# Altium integrated library RSX_Resistors.IntLib: 12 symbols
Pins are listed as number, name and electrical type; pins without a type are passive.

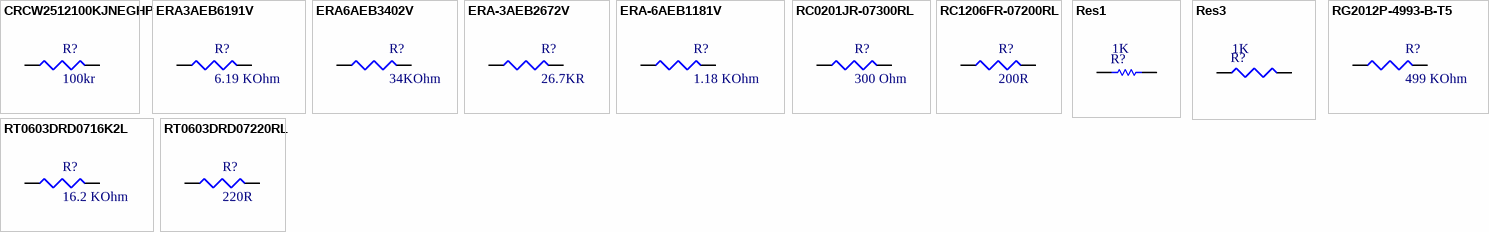
[diagram p0: symbols CRCW2512100KJNEGHP to RT0603DRD07220RL]

## CRCW2512100KJNEGHP
designator R?, comment 100kr
RES SMD 100K OHM 5% 1.5W 2512; Manufacturer 1: Vishay Dale; Manufacturer Part Number 1: CRCW2512100KJNEGHP; Voltage Rating: 500V; Temperature Coefficient: 200ppm/°C; Supplier 1: Digi-Key; Supplier Part Number 1: 541-100KRACT-ND; Stock 1: 229705; Pricing 1: 1=0,75000, 10=0,55200, 100=0,32130, 1000=0,18016 (USD); RoHS: Yes; Case/Package: 2512; Weight: 0.001482oz; Case Code (Metric): 6432; Case Code (Imperial): 2512; Contact Plating: Tin; Min Operating Temperature: -55°C; Max Operating Temperature: 155°C; Power Rating: 1.5W; Tolerance: 5%; Resistance: 100kR; Packaging: Tape and Reel; Package Quantity: 1; Composition: Thick Film; Number of Terminations: 2; Termination: SMD/SMT; Max Power Dissipation: 1.5W; Features: Automotive AEC-Q200; Length: 0.248inch; Height: 0.028inch; Width: 0.124inch; Radiation Hardening: No; Lead Free: Lead Free; ComponentLink1URL: https://datasheet.ciiva.com/2483/crcwhpe3-2483163.pdf?src-supplier=Digi-Key; ComponentLink1Description: https://datasheet.ciiva.com/2483/crcwhpe3-2483163.pdf?src-supplier=Digi-Key; ComponentLink2URL: https://datasheet.ciiva.com/2483/crcwhpe3-2483164.pdf?src-supplier=Digi-Key; ComponentLink2Description: https://datasheet.ciiva.com/2483/crcwhpe3-2483164.pdf?src-supplier=Digi-Key; ComponentLink3URL: https://datasheet.ciiva.com/5545/crcwhpe3-46056-5545996.pdf?src-supplier=Mouser; ComponentLink3Description: https://datasheet.ciiva.com/5545/crcwhpe3-46056-5545996.pdf?src-supplier=Mouser; ComponentLink4URL: https://datasheet.ciiva.com/8982/crcwhpe3-8982492.pdf?src-supplier=Avnet; ComponentLink4Description: https://datasheet.ciiva.com/8982/crcwhpe3-8982492.pdf?src-supplier=Avnet; ComponentLink5URL: https://datasheet.ciiva.com/2483/crcwhpe3-2483165.pdf?src-supplier=Digi-Key; ComponentLink5Description: https://datasheet.ciiva.com/2483/crcwhpe3-2483165.pdf?src-supplier=Digi-Key; Category: Resistor
pins: 11, 12

## ERA3AEB6191V
designator R?, comment 6.19 KOhm
RES SMD 6.19KOHM 0.1% 1/10W 0603; Manufacturer 1: Panasonic; Manufacturer Part Number 1: ERA3AEB6191V; Resistance: 6.19kR; Power Rating: 100mW; Voltage Rating: 75V; Temperature Coefficient: 25ppm/°C; Supplier 1: Digi-Key; Supplier Part Number 1: P6.19KDBCT-ND; Stock 1: 26110; Pricing 1: 1=0,35000, 10=0,30000, 100=0,11720, 1000=0,04906, 2500=0,04498 (USD); RoHS: Yes; Mount: Surface Mount; Case/Package: 0603; Number of Pins: 2; Case Code (Imperial): 0603; Case Code (Metric): 1608; Contact Plating: Tin; Min Operating Temperature: -55°C; Max Operating Temperature: 155°C; Tolerance: 0.1%; Packaging: Tape and Reel; Package Quantity: 1; Composition: Metal Film,Thin Film; Number of Terminations: 2; Military Standard: Not; Max Power Dissipation: 100mW; Voltage Rating (DC): 75V; Features: Automotive AEC-Q200; Length: 1.6mm; Height: 0.45mm; Width: 0.8mm; Depth: 0.8mm; Radiation Hardening: No; REACH SVHC: No SVHC; Lead Free: Lead Free; ComponentLink1URL: https://datasheet.ciiva.com/11809/0900766b80eb1d8c-11809038.pdf?src-supplier=RSComponents; ComponentLink1Description: https://datasheet.ciiva.com/11809/0900766b80eb1d8c-11809038.pdf?src-supplier=RSComponents; ComponentLink2URL: https://datasheet.ciiva.com/5971/485442-5971798.pdf?src-supplier=Farnell; ComponentLink2Description: https://datasheet.ciiva.com/5971/485442-5971798.pdf?src-supplier=Farnell; ComponentLink3URL: https://datasheet.ciiva.com/24026/aoa0000ce26-32660-24026983.pdf?src-supplier=Mouser; ComponentLink3Description: https://datasheet.ciiva.com/24026/aoa0000ce26-32660-24026983.pdf?src-supplier=Mouser; ComponentLink4URL: https://datasheet.ciiva.com/46447/485442-46447114.pdf?src-supplier=Element14; ComponentLink4Description: https://datasheet.ciiva.com/46447/485442-46447114.pdf?src-supplier=Element14; ComponentLink5URL: https://datasheet.ciiva.com/43457/485442-43457243.pdf?src-supplier=Farnell; ComponentLink5Description: https://datasheet.ciiva.com/43457/485442-43457243.pdf?src-supplier=Farnell; ComponentLink6URL: https://datasheet.ciiva.com/46447/485442-46447115.pdf?src-supplier=Element14; ComponentLink6Description: https://datasheet.ciiva.com/46447/485442-46447115.pdf?src-supplier=Element14; ComponentLink7URL: https://datasheet.ciiva.com/41450/001180853-da-01-en-widerstand-era-0603-6k19-0-1-5000st-41450170.pdf?src-supplier=Conrad; ComponentLink7Description: https://datasheet.ciiva.com/41450/001180853-da-01-en-widerstand-era-0603-6k19-0-1-5000st-41450170.pdf?src-supplier=Conrad
footprint 6.19KOhm Resistor (Chip Resistor, 2-Leads, Body 1,60x0,80mm, IPC Medium Density)
pins: 1 11, 2 12

## ERA6AEB3402V
designator R?, comment 34KOhm
RES SMD 34K OHM 0.1% 1/8W 0805; Manufacturer 1: Panasonic; Manufacturer Part Number 1: ERA6AEB3402V; Resistance: 34kR; Temperature Coefficient: 25ppm/°C; Max Power Dissipation: 125mW; Voltage Rating: 200V; Voltage Rating (DC): 100V; Supplier 1: Digi-Key; Supplier Part Number 1: P34KDACT-ND; Stock 1: 7057; Pricing 1: 1=0,36000, 10=0,30200, 100=0,11820, 1000=0,04948, 2500=0,04536 (USD); RoHS: Yes; Mount: Surface Mount; Case/Package: 0805; Number of Pins: 2; Case Code (Imperial): 0805; Case Code (Metric): 2012; Contact Plating: Tin; Min Operating Temperature: -55°C; Max Operating Temperature: 155°C; Tolerance: 0.1%; Packaging: Tape and Reel; Composition: Metal Film,Thin Film; Number of Terminations: 2; Features: Automotive AEC-Q200; Power Rating: 125mW; Package Quantity: 5000; Termination: SMD/SMT; Military Standard: Not; Length: 2mm; Height: 0.5mm; Width: 1.25mm; Depth: 1.25mm; Radiation Hardening: No; Lead Free: Lead Free; REACH SVHC: No SVHC; ComponentLink1URL: https://datasheet.ciiva.com/11815/0900766b80eb1d8c-11815791.pdf?src-supplier=RSComponents; ComponentLink1Description: https://datasheet.ciiva.com/11815/0900766b80eb1d8c-11815791.pdf?src-supplier=RSComponents; ComponentLink2URL: https://datasheet.ciiva.com/41450/001181326-da-01-en-widerstand-era-0805-34k0-0-1-5000st-41450489.pdf?src-supplier=Conrad; ComponentLink2Description: https://datasheet.ciiva.com/41450/001181326-da-01-en-widerstand-era-0805-34k0-0-1-5000st-41450489.pdf?src-supplier=Conrad; ComponentLink3URL: https://datasheet.ciiva.com/9190/aoa0000ce26-9190487.pdf?src-supplier=Avnet; ComponentLink3Description: https://datasheet.ciiva.com/9190/aoa0000ce26-9190487.pdf?src-supplier=Avnet; ComponentLink4URL: https://datasheet.ciiva.com/17210/aoa0000ce26-17210191.pdf?src-supplier=Avnet+Europe; ComponentLink4Description: https://datasheet.ciiva.com/17210/aoa0000ce26-17210191.pdf?src-supplier=Avnet+Europe; ComponentLink5URL: https://datasheet.ciiva.com/22705/485442-22705221.pdf?src-supplier=Element14; ComponentLink5Description: https://datasheet.ciiva.com/22705/485442-22705221.pdf?src-supplier=Element14; ComponentLink6URL: https://datasheet.ciiva.com/6052/485442-6052790.pdf?src-supplier=Farnell; ComponentLink6Description: https://datasheet.ciiva.com/6052/485442-6052790.pdf?src-supplier=Farnell; ComponentLink7URL: https://datasheet.ciiva.com/7870/485442-7870667.pdf?src-supplier=Element14; ComponentLink7Description: https://datasheet.ciiva.com/7870/485442-7870667.pdf?src-supplier=Element14; ComponentLink8URL: https://datasheet.ciiva.com/7870/485442-7870668.pdf?src-supplier=Element14; ComponentLink8Description: https://datasheet.ciiva.com/7870/485442-7870668.pdf?src-supplier=Element14
footprint 34 KOhm Resistor ERA-6A (Chip Resistor, 2-Leads, Body 2,00x1,25mm, IPC Medium Density)
pins: 1 11, 2 12

## ERA-3AEB2672V
designator R?, comment 26.7KR
RES SMD 26.7KOHM 0.1% 1/10W 0603; Manufacturer 1: Panasonic; Manufacturer Part Number 1: ERA-3AEB2672V; Power Rating: 100mW; Voltage Rating: 75V; Temperature Coefficient: 25ppm/°C; Supplier 1: Digi-Key; Supplier Part Number 1: P26.7KDBCT-ND; Stock 1: 17260; Pricing 1: 1=0,35000, 10=0,30000, 100=0,11720, 1000=0,04906, 2500=0,04498 (USD); RoHS: Yes; Mount: Surface Mount; Case/Package: 0603; Number of Pins: 2; Case Code (Metric): 1608; Case Code (Imperial): 0603; Contact Plating: Tin; Min Operating Temperature: -55°C; Max Operating Temperature: 155°C; Resistance: 26.7kR; Tolerance: 0.1%; Packaging: Tape and Reel; Package Quantity: 1; Composition: Thin Film,Metal Film; Number of Terminations: 2; Max Power Dissipation: 100mW; Voltage Rating (DC): 75V; Features: Automotive AEC-Q200; Length: 1.6mm; Height: 0.45mm; Width: 0.8mm; Depth: 0.8mm; Radiation Hardening: No; Lead Free: Lead Free; REACH SVHC: No SVHC; ComponentLink1URL: https://datasheet.ciiva.com/11814/0900766b80eb1d8c-11814836.pdf?src-supplier=RSComponents; ComponentLink1Description: https://datasheet.ciiva.com/11814/0900766b80eb1d8c-11814836.pdf?src-supplier=RSComponents; ComponentLink2URL: https://datasheet.ciiva.com/5987/485442-5987192.pdf?src-supplier=Farnell; ComponentLink2Description: https://datasheet.ciiva.com/5987/485442-5987192.pdf?src-supplier=Farnell; ComponentLink3URL: https://datasheet.ciiva.com/5987/485442-5987183.pdf?src-supplier=Farnell; ComponentLink3Description: https://datasheet.ciiva.com/5987/485442-5987183.pdf?src-supplier=Farnell; ComponentLink4URL: https://datasheet.ciiva.com/46422/485442-46422629.pdf?src-supplier=Element14; ComponentLink4Description: https://datasheet.ciiva.com/46422/485442-46422629.pdf?src-supplier=Element14; ComponentLink5URL: https://datasheet.ciiva.com/17210/aoa0000ce26-17210681.pdf?src-supplier=Avnet+Europe; ComponentLink5Description: https://datasheet.ciiva.com/17210/aoa0000ce26-17210681.pdf?src-supplier=Avnet+Europe
footprint 26.7KR Resistor (Chip Resistor, 2-Leads, Body 1,60x0,80mm, IPC Medium Density)
pins: 1 11, 2 12

## ERA-6AEB1181V
designator R?, comment 1.18 KOhm
RES SMD 1.18K OHM 0.1% 1/8W 0805; Manufacturer 1: Panasonic; Manufacturer Part Number 1: ERA-6AEB1181V; Resistance: 1.18kR; Power Rating: 125mW; Voltage Rating: 100V; Temperature Coefficient: 25ppm/°C; Supplier 1: Digi-Key; Supplier Part Number 1: P1.18KDACT-ND; Stock 1: 9011; Pricing 1: 1=0,36000, 10=0,30200, 100=0,11820, 1000=0,04948, 2500=0,04536 (USD); RoHS: Yes; Mount: Surface Mount; Case/Package: 0805; Number of Pins: 2; Case Code (Imperial): 0805; Case Code (Metric): 2012; Contact Plating: Tin; Min Operating Temperature: -55°C; Max Operating Temperature: 155°C; Tolerance: 0.1%; Packaging: Tape and Reel; Composition: Metal Film,Thin Film; Package Quantity: 1; Termination: SMD/SMT; Number of Terminations: 2; Max Power Dissipation: 125mW; Voltage Rating (DC): 100V; Features: Automotive AEC-Q200; Length: 2mm; Height: 0.5mm; Width: 1.25mm; Depth: 1.25mm; Radiation Hardening: No; Lead Free: Lead Free; ComponentLink1URL: https://datasheet.ciiva.com/11811/0900766b80eb1d8c-11811515.pdf?src-supplier=RSComponents; ComponentLink1Description: https://datasheet.ciiva.com/11811/0900766b80eb1d8c-11811515.pdf?src-supplier=RSComponents; ComponentLink2URL: https://datasheet.ciiva.com/26335/459360-da-01-en-widerstand-0805-era-26335818.pdf?src-supplier=Conrad; ComponentLink2Description: https://datasheet.ciiva.com/26335/459360-da-01-en-widerstand-0805-era-26335818.pdf?src-supplier=Conrad; ComponentLink3URL: https://datasheet.ciiva.com/7911/485442-7911589.pdf?src-supplier=Element14; ComponentLink3Description: https://datasheet.ciiva.com/7911/485442-7911589.pdf?src-supplier=Element14; ComponentLink4URL: https://datasheet.ciiva.com/7911/485442-7911590.pdf?src-supplier=Element14; ComponentLink4Description: https://datasheet.ciiva.com/7911/485442-7911590.pdf?src-supplier=Element14; ComponentLink5URL: https://datasheet.ciiva.com/5870/485442-5870600.pdf?src-supplier=Farnell; ComponentLink5Description: https://datasheet.ciiva.com/5870/485442-5870600.pdf?src-supplier=Farnell; ComponentLink6URL: https://datasheet.ciiva.com/5870/485442-5870601.pdf?src-supplier=Farnell; ComponentLink6Description: https://datasheet.ciiva.com/5870/485442-5870601.pdf?src-supplier=Farnell; ComponentLink7URL: https://datasheet.ciiva.com/9198/aoa0000ce26-9198586.pdf?src-supplier=Avnet; ComponentLink7Description: https://datasheet.ciiva.com/9198/aoa0000ce26-9198586.pdf?src-supplier=Avnet; ComponentLink8URL: https://datasheet.ciiva.com/5870/485442-5870603.pdf?src-supplier=Farnell; ComponentLink8Description: https://datasheet.ciiva.com/5870/485442-5870603.pdf?src-supplier=Farnell
footprint 34 KOhm Resistor ERA-6A (Chip Resistor, 2-Leads, Body 2,00x1,25mm, IPC Medium Density)
pins: 1 11, 2 12

## RC0201JR-07300RL
designator R?, comment 300 Ohm
RES SMD 300 OHM 5% 1/20W 0201; Manufacturer 1: Yageo; Manufacturer Part Number 1: RC0201JR-07300RL; Resistance: 300R; Power Rating: 50mW; Voltage Rating: 25V; Temperature Coefficient: 200ppm/°C; Supplier 1: Digi-Key; Supplier Part Number 1: 311-300NCT-ND; Stock 1: 301034; Pricing 1: 1=0,10000, 10=0,02800, 100=0,01150, 1000=0,00517, 2500=0,00448, 5000=0,00371 (USD); RoHS: Yes; Case/Package: 0201; Case Code (Imperial): 0201; Case Code (Metric): 0603; Min Operating Temperature: -55°C; Max Operating Temperature: 125°C; Tolerance: 5%; Packaging: Tape and Reel; Termination: SMD/SMT; Composition: Thick Film; Military Standard: Not; Length: 0.6mm; Height: 0.23mm; Width: 0.3mm; Depth: 0.3mm; Lead Free: Lead Free; ComponentLink1URL: http://www.mouser.com/ds/2/447/RC0201-559633.pdf?src-supplier=Mouser; ComponentLink1Description: http://www.mouser.com/ds/2/447/RC0201-559633.pdf?src-supplier=Mouser; ComponentLink2URL: http://components.arrow.com/part/dataview/0323_03295127?src-supplier=Arrow+Europe; ComponentLink2Description: http://components.arrow.com/part/dataview/0323_03295127?src-supplier=Arrow+Europe; ComponentLink3URL: http://www.yageo.com/documents/recent/PYu-RC0201_51_RoHS_L_(8).pdf?src-supplier=Future+Electronics; ComponentLink3Description: http://www.yageo.com/documents/recent/PYu-RC0201_51_RoHS_L_(8).pdf?src-supplier=Future+Electronics; ComponentLink4URL: http://www.yageo.com/documents/recent/PYu-RC_Group_51_RoHS_L_10.pdf?src-supplier=Digi-Key; ComponentLink4Description: http://www.yageo.com/documents/recent/PYu-RC_Group_51_RoHS_L_10.pdf?src-supplier=Digi-Key; ComponentLink5URL: http://www.yageo.com/documents/recent/PYu-RC_Group_51_RoHS_L_9.pdf?src-supplier=Digi-Key; ComponentLink5Description: http://www.yageo.com/documents/recent/PYu-RC_Group_51_RoHS_L_9.pdf?src-supplier=Digi-Key; Category: Resistors
pins: 11, 12

## RC1206FR-07200RL
designator R?, comment 200R
RES SMD 200 OHM 1% 1/4W 1206; Manufacturer 1: Yageo; Manufacturer Part Number 1: RC1206FR-07200RL; Temperature Coefficient: 100ppm/°C; Voltage Rating (DC): 200V; Power Rating: 250mW; Supplier 1: Digi-Key; Supplier Part Number 1: 311-200FRCT-ND; Stock 1: 3032350; Pricing 1: 1=0,10000, 10=0,07100, 100=0,02910, 1000=0,01306, 2500=0,01134 (USD); RoHS: Yes; Mount: Surface Mount; Case/Package: 1206; Weight: 0.000571oz; Case Code (Imperial): 1206; Case Code (Metric): 3216; Min Operating Temperature: -55°C; Max Operating Temperature: 155°C; Tolerance: 1%; Resistance: 200R; Packaging: Tape and Reel; Composition: Thick Film; Voltage Rating: 200V; Termination: SMD/SMT; Military Standard: Not; Length: 3.1mm; Height: 0.55mm; Width: 1.6mm; Depth: 1.6mm; Lead Free: Lead Free; ComponentLink1URL: https://datasheet.ciiva.com/11808/0900766b80c6630a-11808603.pdf?src-supplier=RSComponents; ComponentLink1Description: https://datasheet.ciiva.com/11808/0900766b80c6630a-11808603.pdf?src-supplier=RSComponents; Category: Resistor
pins: 11, 12

## Res1
designator R?  value 1K
Resistor; Published: 8-Jun-2000; LatestRevisionDate: 17-Jul-2002; LatestRevisionNote: Re-released for DXP Platform.; PackageReference: AXIAL-0.3; Publisher: Altium Limited; PackageDescription: Axial Device, Thru-Hole; 2 Leads; 0.3 in Pin Spacing
footprint RESC1608X06N_0603 (Chip Resistor, 2-Leads, Body 1.60x0.80mm, IPC Medium Density)
pins: 1, 2

## Res3
designator R?  value 1K
Resistor; Published: 8-Jun-2000; LatestRevisionDate: 29-May-2009; LatestRevisionNote: IPC-7351 Footprint Added.; PackageReference: J1-0603; Publisher: Altium Limited; PackageDescription: Chip Resistor
footprint RESC1608X06N_0603 (Chip Resistor, 2-Leads, Body 1.60x0.80mm, IPC Medium Density)
pins: 1, 2

## RG2012P-4993-B-T5
designator R?, comment 499 KOhm
RES SMD 499K OHM 0.1% 1/8W 0805; Manufacturer 1: Susumu; Manufacturer Part Number 1: RG2012P-4993-B-T5; Resistance: 499kR; Power Rating: 125mW; Voltage Rating: 150V; Temperature Coefficient: 25ppm/°C; Supplier 1: Digi-Key; Supplier Part Number 1: RG20P499KBCT-ND; Stock 1: 27646; Pricing 1: 1=0,41000, 10=0,31800, 100=0,13360, 1000=0,07374, 2500=0,06913 (USD); RoHS: Yes; Case/Package: 0805; Weight: 0.000194oz; Case Code (Imperial): 0805; Case Code (Metric): 2012; Min Operating Temperature: -55°C; Max Operating Temperature: 155°C; Packaging: Tape and Reel; Tolerance: 0.1%; Termination: SMD/SMT; Composition: Thin Film; Voltage Rating (DC): 150V; Length: 2mm; Height: 0.4mm; Width: 1.2mm; Lead Free: Lead Free; ComponentLink1URL: https://datasheet.ciiva.com/5624/rg-rm-rgh-datasheet-5624071.pdf?src-supplier=Mouser; ComponentLink1Description: https://datasheet.ciiva.com/5624/rg-rm-rgh-datasheet-5624071.pdf?src-supplier=Mouser
footprint 499KOhm RG2012 (Chip Resistor, 2-Leads, Body 2,00x1,25mm, IPC Medium Density)
pins: 1 11, 2 12

## RT0603DRD0716K2L
designator R?, comment 16.2 KOhm
RES SMD 16.2KOHM 0.5% 1/10W 0603; Manufacturer 1: Yageo; Manufacturer Part Number 1: RT0603DRD0716K2L; Resistance: 16.2kR; Max Power Dissipation: 100mW; Temperature Coefficient: 25ppm/°C; Voltage Rating (DC): 50V; Supplier 1: Digi-Key; Supplier Part Number 1: 311-16.2KDCT-ND; Stock 1: 8163; Pricing 1: 1=0,20000, 10=0,16800, 100=0,06570, 1000=0,02750, 2500=0,02521 (USD); RoHS: Yes; Case/Package: 0603; Case Code (Metric): 1608; Case Code (Imperial): 0603; Min Operating Temperature: -55°C; Max Operating Temperature: 155°C; Package Quantity: 1; Tolerance: 0.5%; Packaging: Tape and Reel; Composition: Thin Film; Number of Terminations: 2; Features: Moisture Resistant; Length: 0.063inch; Height: 0.022inch; Width: 0.031inch; Lead Free: Lead Free; ComponentLink1URL: http://www.yageo.com/documents/recent/PYu-RT_1-to-0.01_RoHS_L_8.pdf?src-supplier=Digi-Key; ComponentLink1Description: http://www.yageo.com/documents/recent/PYu-RT_1-to-0.01_RoHS_L_8.pdf?src-supplier=Digi-Key; Category: Resistors
footprint 16.2 KOhm Resistor (Chip Resistor, 2-Leads, Body 1,60x0,80mm, IPC Medium Density)
pins: 1 11, 2 12

## RT0603DRD07220RL
designator R?, comment 220R
RES SMD 220 OHM 0.5% 1/10W 0603; Manufacturer 1: Yageo; Manufacturer Part Number 1: RT0603DRD07220RL; Max Power Dissipation: 100mW; Temperature Coefficient: 25ppm/°C; Voltage Rating (DC): 50V; Supplier 1: Digi-Key; Supplier Part Number 1: 311-220DCT-ND; Stock 1: 5545; Pricing 1: 1=0,20000, 10=0,16800, 100=0,06570, 1000=0,02750, 2500=0,02521 (USD); RoHS: Yes; Case/Package: 0603; Case Code (Metric): 1608; Case Code (Imperial): 0603; Min Operating Temperature: -55°C; Max Operating Temperature: 155°C; Package Quantity: 5000; Resistance: 220R; Tolerance: 0.5%; Packaging: Tape and Reel; Composition: Thin Film; Number of Terminations: 2; Features: Moisture Resistant; Length: 0.063inch; Height: 0.022inch; Width: 0.031inch; Lead Free: Lead Free; ComponentLink1URL: http://www.yageo.com/documents/recent/PYu-RT_1-to-0.01_RoHS_L_9.pdf?src-supplier=Digi-Key; ComponentLink1Description: http://www.yageo.com/documents/recent/PYu-RT_1-to-0.01_RoHS_L_9.pdf?src-supplier=Digi-Key; ComponentLink2URL: http://www.yageo.com/documents/recent/PYu-RT_1-to-0.01_RoHS_L_8.pdf?src-supplier=Digi-Key; ComponentLink2Description: http://www.yageo.com/documents/recent/PYu-RT_1-to-0.01_RoHS_L_8.pdf?src-supplier=Digi-Key; Category: Resistors
pins: 11, 12